# Altium integrated library TI Memory Dynamic RAM.IntLib: 45 symbols
Pins are listed as number, name and electrical type; pins without a type are passive.

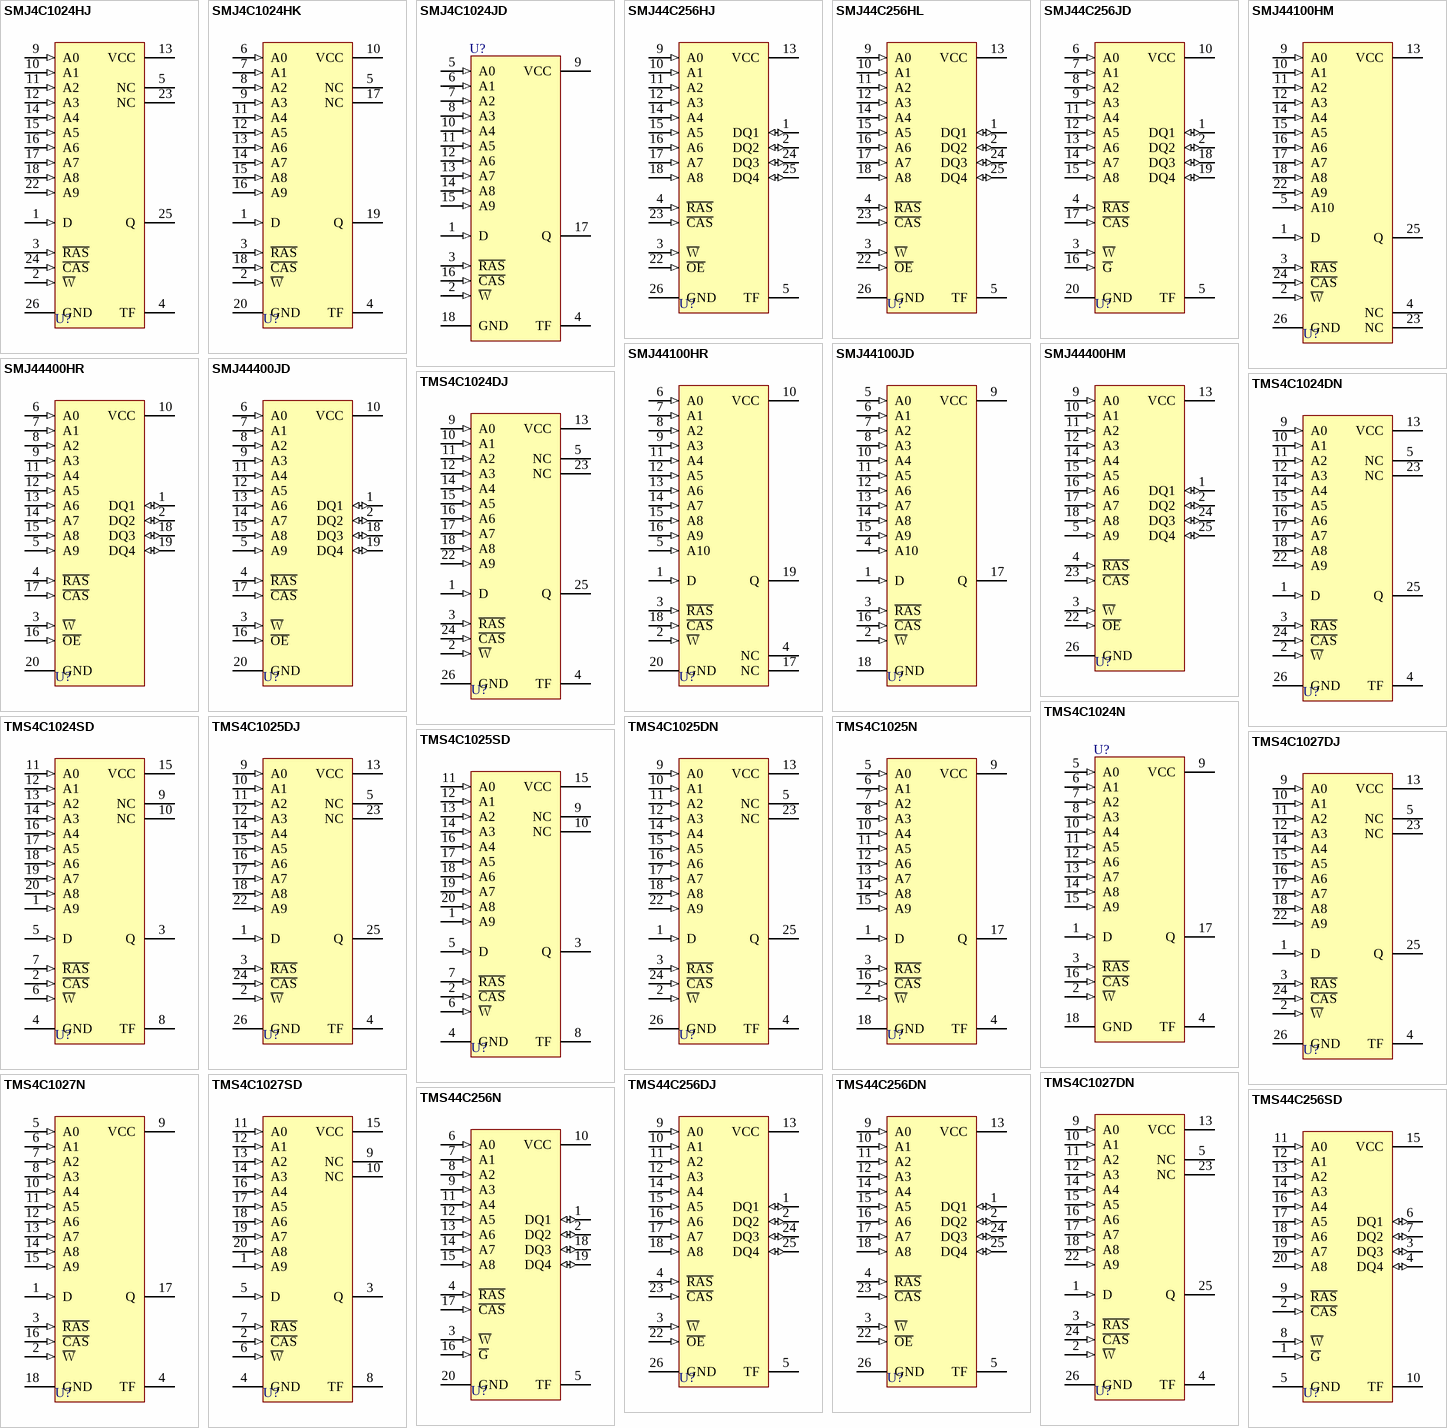
[diagram p0: symbols SMJ4C1024HJ to TMS44C256SD]

## SMJ4C1024HJ
designator U?
1 048 576-Bit Dynamic RAM; Published: 15-Apr-2002; DatasheetVersion: Dec-1989; PackageVersion: 1991; PackageReference: HJ20/26; Publisher: Altium Limited; PackageDescription: SOJ; 20 Leads; Body Width 8.4 mm; Pitch 1.27 mm; ComponentLink1Description: Manufacturer Link; ComponentLink1URL: http://www.ti.com/
footprint HJ20/26 (SOJ; 20 Leads; Body Width 8.4 mm; Pitch 1.27 mm)
pins: 1 D (in), 2 ~{W} (in), 3 ~{RAS} (in), 4 TF, 5 NC, 9 A0 (in), 10 A1 (in), 11 A2 (in), 12 A3 (in), 13 VCC (power), 14 A4 (in), 15 A5 (in), 16 A6 (in), 17 A7 (in), 18 A8 (in), 22 A9 (in), 23 NC, 24 ~{CAS} (in), 25 Q (hiz), 26 GND (power)

## SMJ4C1024HK
designator U?
1 048 576-Bit Dynamic RAM; Published: 15-Apr-2002; LatestRevisionDate: 08-Jul-2005; LatestRevisionNote: Stylized 3D Model Added.; DatasheetVersion: Dec-1989; PackageVersion: 1991; PackageReference: HK20; Publisher: Altium Limited; PackageDescription: DFP; 20 Leads; Body 17.3 x 9.8 mm (LxW max); Pitch 1.27 mm; ComponentLink1Description: Manufacturer Link; ComponentLink1URL: http://www.ti.com/
footprint HK20 (DFP; 20 Leads; Body 17.3 x 9.8 mm (LxW max); Pitch 1.27 mm)
3D model HR20 (DFP; 20 Leads; Body 17.3 x 9.8 mm (LxW max); Pitch 1.27 mm)
pins: 1 D (in), 2 ~{W} (in), 3 ~{RAS} (in), 4 TF, 5 NC, 6 A0 (in), 7 A1 (in), 8 A2 (in), 9 A3 (in), 10 VCC (power), 11 A4 (in), 12 A5 (in), 13 A6 (in), 14 A7 (in), 15 A8 (in), 16 A9 (in), 17 NC, 18 ~{CAS} (in), 19 Q (hiz), 20 GND (power)

## SMJ4C1024JD
designator U?
1 048 576-Bit Dynamic RAM; Published: 15-Apr-2002; LatestRevisionDate: 08-Jul-2005; LatestRevisionNote: Stylized 3D Model Added.; DatasheetVersion: Dec-1989; PackageVersion: Jun-1997; PackageReference: JD018-0.43; Publisher: Altium Limited; PackageDescription: DIP; 18 Leads; Row Spacing 10.16 mm; Pitch 2.54 mm; ComponentLink1Description: Manufacturer Link; ComponentLink1URL: http://www.ti.com/
footprint JD018-0.43 (DIP; 18 Leads; Row Spacing 10.16 mm; Pitch 2.54 mm)
3D model JD018-0_43 (DIP; 18 Leads; Row Spacing 10.16 mm; Pitch 2.54 mm)
pins: 1 D (in), 2 ~{W} (in), 3 ~{RAS} (in), 4 TF, 5 A0 (in), 6 A1 (in), 7 A2 (in), 8 A3 (in), 9 VCC (power), 10 A4 (in), 11 A5 (in), 12 A6 (in), 13 A7 (in), 14 A8 (in), 15 A9 (in), 16 ~{CAS} (in), 17 Q (hiz), 18 GND (power)

## SMJ44C256HJ
designator U?
262 144-Word by 4-Bit Dynamic RAM; Published: 15-Apr-2002; DatasheetVersion: Feb-1990; PackageVersion: 1991; PackageReference: HJ20/26; Publisher: Altium Limited; PackageDescription: SOJ; 20 Leads; Body Width 8.4 mm; Pitch 1.27 mm; ComponentLink1Description: Manufacturer Link; ComponentLink1URL: http://www.ti.com/
footprint HJ20/26 (SOJ; 20 Leads; Body Width 8.4 mm; Pitch 1.27 mm)
pins: 1 DQ1 (io), 2 DQ2 (io), 3 ~{W} (in), 4 ~{RAS} (in), 5 TF, 9 A0 (in), 10 A1 (in), 11 A2 (in), 12 A3 (in), 13 VCC (power), 14 A4 (in), 15 A5 (in), 16 A6 (in), 17 A7 (in), 18 A8 (in), 22 ~{OE} (in), 23 ~{CAS} (in), 24 DQ3 (io), 25 DQ4 (io), 26 GND (power)

## SMJ44C256HL
designator U?
262 144-Word by 4-Bit Dynamic RAM; Published: 15-Apr-2002; DatasheetVersion: Feb-1990; PackageVersion: 1991; PackageReference: HL20/26; Publisher: Altium Limited; PackageDescription: Leadless Chip Carrier; 20 Terminals; Body 8.9 x 17.1 mm; ComponentLink1Description: Manufacturer Link; ComponentLink1URL: http://www.ti.com/
footprint HL20/26 (Leadless Chip Carrier; 20 Terminals; Body 8.9 x 17.1 mm)
pins: 1 DQ1 (io), 2 DQ2 (io), 3 ~{W} (in), 4 ~{RAS} (in), 5 TF, 9 A0 (in), 10 A1 (in), 11 A2 (in), 12 A3 (in), 13 VCC (power), 14 A4 (in), 15 A5 (in), 16 A6 (in), 17 A7 (in), 18 A8 (in), 22 ~{OE} (in), 23 ~{CAS} (in), 24 DQ3 (io), 25 DQ4 (io), 26 GND (power)

## SMJ44C256JD
designator U?
262 144-Word by 4-Bit Dynamic RAM; Published: 15-Apr-2002; LatestRevisionDate: 08-Jul-2005; LatestRevisionNote: Stylized 3D Model Added.; DatasheetVersion: Feb-1990; PackageVersion: Jun-1997; PackageReference: JD020-0.43; Publisher: Altium Limited; PackageDescription: DIP; 20 Leads; Row Spacing 10.16 mm; Pitch 2.54 mm; Code_JEDEC: MS-015-BA; ComponentLink1Description: Manufacturer Link; ComponentLink1URL: http://www.ti.com/
footprint JD020-0.43 (DIP; 20 Leads; Row Spacing 10.16 mm; Pitch 2.54 mm)
3D model JD020-0_43 (DIP; 20 Leads; Row Spacing 10.16 mm; Pitch 2.54 mm)
pins: 1 DQ1 (io), 2 DQ2 (io), 3 ~{W} (in), 4 ~{RAS} (in), 5 TF, 6 A0 (in), 7 A1 (in), 8 A2 (in), 9 A3 (in), 10 VCC (power), 11 A4 (in), 12 A5 (in), 13 A6 (in), 14 A7 (in), 15 A8 (in), 16 ~{G} (in), 17 ~{CAS} (in), 18 DQ3 (io), 19 DQ4 (io), 20 GND (power)

## SMJ44100HM
designator U?
4 194 304-Word by 1-Bit Dynamic RAM; Published: 15-Apr-2002; DatasheetVersion: Jan-1991; PackageVersion: 1991; PackageReference: HM20/26; Publisher: Altium Limited; PackageDescription: Leadless Chip Carrier; 20 Terminals; Body 10.2 x 17.8 mm; ComponentLink1Description: Manufacturer Link; ComponentLink1URL: http://www.ti.com/
footprint HM20/26 (Leadless Chip Carrier; 20 Terminals; Body 10.2 x 17.8 mm)
pins: 1 D (in), 2 ~{W} (in), 3 ~{RAS} (in), 4 NC, 5 A10 (in), 9 A0 (in), 10 A1 (in), 11 A2 (in), 12 A3 (in), 13 VCC (power), 14 A4 (in), 15 A5 (in), 16 A6 (in), 17 A7 (in), 18 A8 (in), 22 A9 (in), 23 NC, 24 ~{CAS} (in), 25 Q (hiz), 26 GND (power)

## SMJ44100HR
designator U?
4 194 304-Word by 1-Bit Dynamic RAM; Published: 15-Apr-2002; LatestRevisionDate: 08-Jul-2005; LatestRevisionNote: Stylized 3D Model Added.; DatasheetVersion: Jan-1991; PackageVersion: 1991; PackageReference: HR20; Publisher: Altium Limited; PackageDescription: DFP; 20 Leads; Body 18 x 12.6 mm (LxW max); Pitch 1.27 mm; ComponentLink1Description: Manufacturer Link; ComponentLink1URL: http://www.ti.com/
footprint HR20 (DFP; 20 Leads; Body 18 x 12.6 mm (LxW max); Pitch 1.27 mm)
3D model HR20 (DFP; 20 Leads; Body 18 x 12.6 mm (LxW max); Pitch 1.27 mm)
pins: 1 D (in), 2 ~{W} (in), 3 ~{RAS} (in), 4 NC, 5 A10 (in), 6 A0 (in), 7 A1 (in), 8 A2 (in), 9 A3 (in), 10 VCC (power), 11 A4 (in), 12 A5 (in), 13 A6 (in), 14 A7 (in), 15 A8 (in), 16 A9 (in), 17 NC, 18 ~{CAS} (in), 19 Q (hiz), 20 GND (power)

## SMJ44100JD
designator U?
4 194 304-Word by 1-Bit Dynamic RAM; Published: 15-Apr-2002; LatestRevisionDate: 08-Jul-2005; LatestRevisionNote: Stylized 3D Model Added.; DatasheetVersion: Jan-1991; PackageVersion: Jun-1997; PackageReference: JD018-0.43; Publisher: Altium Limited; PackageDescription: DIP; 18 Leads; Row Spacing 10.16 mm; Pitch 2.54 mm; ComponentLink1Description: Manufacturer Link; ComponentLink1URL: http://www.ti.com/
footprint JD018-0.43 (DIP; 18 Leads; Row Spacing 10.16 mm; Pitch 2.54 mm)
3D model JD018-0_43 (DIP; 18 Leads; Row Spacing 10.16 mm; Pitch 2.54 mm)
pins: 1 D (in), 2 ~{W} (in), 3 ~{RAS} (in), 4 A10 (in), 5 A0 (in), 6 A1 (in), 7 A2 (in), 8 A3 (in), 9 VCC (power), 10 A4 (in), 11 A5 (in), 12 A6 (in), 13 A7 (in), 14 A8 (in), 15 A9 (in), 16 ~{CAS} (in), 17 Q (hiz), 18 GND (power)

## SMJ44400HM
designator U?
1 048 576-Word by 4-Bit Dynamic RAM; Published: 15-Apr-2002; DatasheetVersion: Jan-1991; PackageVersion: 1991; PackageReference: HM20/26; Publisher: Altium Limited; PackageDescription: Leadless Chip Carrier; 20 Terminals; Body 10.2 x 17.8 mm; ComponentLink1Description: Manufacturer Link; ComponentLink1URL: http://www.ti.com/
footprint HM20/26 (Leadless Chip Carrier; 20 Terminals; Body 10.2 x 17.8 mm)
pins: 1 DQ1 (io), 2 DQ2 (io), 3 ~{W} (in), 4 ~{RAS} (in), 5 A9 (in), 9 A0 (in), 10 A1 (in), 11 A2 (in), 12 A3 (in), 13 VCC (power), 14 A4 (in), 15 A5 (in), 16 A6 (in), 17 A7 (in), 18 A8 (in), 22 ~{OE} (in), 23 ~{CAS} (in), 24 DQ3 (io), 25 DQ4 (io), 26 GND (power)

## SMJ44400HR
designator U?
1 048 576-Word by 4-Bit Dynamic RAM; Published: 15-Apr-2002; LatestRevisionDate: 08-Jul-2005; LatestRevisionNote: Stylized 3D Model Added.; DatasheetVersion: Jan-1991; PackageVersion: 1991; PackageReference: HR20; Publisher: Altium Limited; PackageDescription: DFP; 20 Leads; Body 18 x 12.6 mm (LxW max); Pitch 1.27 mm; ComponentLink1Description: Manufacturer Link; ComponentLink1URL: http://www.ti.com/
footprint HR20 (DFP; 20 Leads; Body 18 x 12.6 mm (LxW max); Pitch 1.27 mm)
3D model HR20 (DFP; 20 Leads; Body 18 x 12.6 mm (LxW max); Pitch 1.27 mm)
pins: 1 DQ1 (io), 2 DQ2 (io), 3 ~{W} (in), 4 ~{RAS} (in), 5 A9 (in), 6 A0 (in), 7 A1 (in), 8 A2 (in), 9 A3 (in), 10 VCC (power), 11 A4 (in), 12 A5 (in), 13 A6 (in), 14 A7 (in), 15 A8 (in), 16 ~{OE} (in), 17 ~{CAS} (in), 18 DQ3 (io), 19 DQ4 (io), 20 GND (power)

## SMJ44400JD
designator U?
1 048 576-Word by 4-Bit Dynamic RAM; Published: 15-Apr-2002; LatestRevisionDate: 08-Jul-2005; LatestRevisionNote: Stylized 3D Model Added.; DatasheetVersion: Jan-1991; PackageVersion: Jun-1997; PackageReference: JD020-0.43; Publisher: Altium Limited; PackageDescription: DIP; 20 Leads; Row Spacing 10.16 mm; Pitch 2.54 mm; Code_JEDEC: MS-015-BA; ComponentLink1Description: Manufacturer Link; ComponentLink1URL: http://www.ti.com/
footprint JD020-0.43 (DIP; 20 Leads; Row Spacing 10.16 mm; Pitch 2.54 mm)
3D model JD020-0_43 (DIP; 20 Leads; Row Spacing 10.16 mm; Pitch 2.54 mm)
pins: 1 DQ1 (io), 2 DQ2 (io), 3 ~{W} (in), 4 ~{RAS} (in), 5 A9 (in), 6 A0 (in), 7 A1 (in), 8 A2 (in), 9 A3 (in), 10 VCC (power), 11 A4 (in), 12 A5 (in), 13 A6 (in), 14 A7 (in), 15 A8 (in), 16 ~{OE} (in), 17 ~{CAS} (in), 18 DQ3 (io), 19 DQ4 (io), 20 GND (power)

## TMS4C1024DJ
designator U?
1 048 576-Bit Dynamic RAM; Published: 15-Apr-2002; DatasheetVersion: Nov-1990; PackageVersion: 1991; PackageReference: DJ20/26; Publisher: Altium Limited; PackageDescription: SOJ; 20 Leads; Body Width 7.6 mm; Pitch 1.27 mm; ComponentLink1Description: Manufacturer Link; ComponentLink1URL: http://www.ti.com/
footprint DJ20/26 (SOJ; 20 Leads; Body Width 7.6 mm; Pitch 1.27 mm)
pins: 1 D (in), 2 ~{W} (in), 3 ~{RAS} (in), 4 TF, 5 NC, 9 A0 (in), 10 A1 (in), 11 A2 (in), 12 A3 (in), 13 VCC (power), 14 A4 (in), 15 A5 (in), 16 A6 (in), 17 A7 (in), 18 A8 (in), 22 A9 (in), 23 NC, 24 ~{CAS} (in), 25 Q (hiz), 26 GND (power)

## TMS4C1024DN
designator U?
1 048 576-Bit Dynamic RAM; Published: 15-Apr-2002; DatasheetVersion: Nov-1990; PackageVersion: 1991; PackageReference: DN20/26; Publisher: Altium Limited; PackageDescription: SOJ; 20 Leads; Body Width 7.5 mm; Pitch 1.27 mm; ComponentLink1Description: Manufacturer Link; ComponentLink1URL: http://www.ti.com/
footprint DN20/26 (SOJ; 20 Leads; Body Width 7.5 mm; Pitch 1.27 mm)
pins: 1 D (in), 2 ~{W} (in), 3 ~{RAS} (in), 4 TF, 5 NC, 9 A0 (in), 10 A1 (in), 11 A2 (in), 12 A3 (in), 13 VCC (power), 14 A4 (in), 15 A5 (in), 16 A6 (in), 17 A7 (in), 18 A8 (in), 22 A9 (in), 23 NC, 24 ~{CAS} (in), 25 Q (hiz), 26 GND (power)

## TMS4C1024N
designator U?
1 048 576-Bit Dynamic RAM; Published: 15-Apr-2002; LatestRevisionDate: 08-Jul-2005; LatestRevisionNote: Stylized 3D Model Added.; DatasheetVersion: Nov-1990; PackageVersion: Oct-1995; PackageReference: N018; Publisher: Altium Limited; PackageDescription: DIP; 18 Leads; Row Spacing 7.62 mm; Pitch 2.54 mm; ComponentLink1Description: Manufacturer Link; ComponentLink1URL: http://www.ti.com/
footprint N018 (DIP; 18 Leads; Row Spacing 7.62 mm; Pitch 2.54 mm)
3D model N018 (DIP; 18 Leads; Row Spacing 7.62 mm; Pitch 2.54 mm)
pins: 1 D (in), 2 ~{W} (in), 3 ~{RAS} (in), 4 TF, 5 A0 (in), 6 A1 (in), 7 A2 (in), 8 A3 (in), 9 VCC (power), 10 A4 (in), 11 A5 (in), 12 A6 (in), 13 A7 (in), 14 A8 (in), 15 A9 (in), 16 ~{CAS} (in), 17 Q (hiz), 18 GND (power)

## TMS4C1024SD
designator U?
1 048 576-Bit Dynamic RAM; Published: 15-Apr-2002; DatasheetVersion: Nov-1990; PackageVersion: 1991; PackageReference: SD020; Publisher: Altium Limited; PackageDescription: ZIP; 20 Leads; Row Space 2.54 mm; Pitch 1.27 mm; ComponentLink1Description: Manufacturer Link; ComponentLink1URL: http://www.ti.com/
footprint SD020 (ZIP; 20 Leads; Row Space 2.54 mm; Pitch 1.27 mm)
pins: 1 A9 (in), 2 ~{CAS} (in), 3 Q (hiz), 4 GND (power), 5 D (in), 6 ~{W} (in), 7 ~{RAS} (in), 8 TF, 9 NC, 10 NC, 11 A0 (in), 12 A1 (in), 13 A2 (in), 14 A3 (in), 15 VCC (power), 16 A4 (in), 17 A5 (in), 18 A6 (in), 19 A7 (in), 20 A8 (in)

## TMS4C1025DJ
designator U?
1 048 576-Bit Dynamic RAM; Published: 15-Apr-2002; DatasheetVersion: Nov-1990; PackageVersion: 1991; PackageReference: DJ20/26; Publisher: Altium Limited; PackageDescription: SOJ; 20 Leads; Body Width 7.6 mm; Pitch 1.27 mm; ComponentLink1Description: Manufacturer Link; ComponentLink1URL: http://www.ti.com/
footprint DJ20/26 (SOJ; 20 Leads; Body Width 7.6 mm; Pitch 1.27 mm)
pins: 1 D (in), 2 ~{W} (in), 3 ~{RAS} (in), 4 TF, 5 NC, 9 A0 (in), 10 A1 (in), 11 A2 (in), 12 A3 (in), 13 VCC (power), 14 A4 (in), 15 A5 (in), 16 A6 (in), 17 A7 (in), 18 A8 (in), 22 A9 (in), 23 NC, 24 ~{CAS} (in), 25 Q (hiz), 26 GND (power)

## TMS4C1025DN
designator U?
1 048 576-Bit Dynamic RAM; Published: 15-Apr-2002; DatasheetVersion: Nov-1990; PackageVersion: 1991; PackageReference: DN20/26; Publisher: Altium Limited; PackageDescription: SOJ; 20 Leads; Body Width 7.5 mm; Pitch 1.27 mm; ComponentLink1Description: Manufacturer Link; ComponentLink1URL: http://www.ti.com/
footprint DN20/26 (SOJ; 20 Leads; Body Width 7.5 mm; Pitch 1.27 mm)
pins: 1 D (in), 2 ~{W} (in), 3 ~{RAS} (in), 4 TF, 5 NC, 9 A0 (in), 10 A1 (in), 11 A2 (in), 12 A3 (in), 13 VCC (power), 14 A4 (in), 15 A5 (in), 16 A6 (in), 17 A7 (in), 18 A8 (in), 22 A9 (in), 23 NC, 24 ~{CAS} (in), 25 Q (hiz), 26 GND (power)

## TMS4C1025N
designator U?
1 048 576-Bit Dynamic RAM; Published: 15-Apr-2002; LatestRevisionDate: 08-Jul-2005; LatestRevisionNote: Stylized 3D Model Added.; DatasheetVersion: Nov-1990; PackageVersion: Oct-1995; PackageReference: N018; Publisher: Altium Limited; PackageDescription: DIP; 18 Leads; Row Spacing 7.62 mm; Pitch 2.54 mm; ComponentLink1Description: Manufacturer Link; ComponentLink1URL: http://www.ti.com/
footprint N018 (DIP; 18 Leads; Row Spacing 7.62 mm; Pitch 2.54 mm)
3D model N018 (DIP; 18 Leads; Row Spacing 7.62 mm; Pitch 2.54 mm)
pins: 1 D (in), 2 ~{W} (in), 3 ~{RAS} (in), 4 TF, 5 A0 (in), 6 A1 (in), 7 A2 (in), 8 A3 (in), 9 VCC (power), 10 A4 (in), 11 A5 (in), 12 A6 (in), 13 A7 (in), 14 A8 (in), 15 A9 (in), 16 ~{CAS} (in), 17 Q (hiz), 18 GND (power)

## TMS4C1025SD
designator U?
1 048 576-Bit Dynamic RAM; Published: 15-Apr-2002; DatasheetVersion: Nov-1990; PackageVersion: 1991; PackageReference: SD020; Publisher: Altium Limited; PackageDescription: ZIP; 20 Leads; Row Space 2.54 mm; Pitch 1.27 mm; ComponentLink1Description: Manufacturer Link; ComponentLink1URL: http://www.ti.com/
footprint SD020 (ZIP; 20 Leads; Row Space 2.54 mm; Pitch 1.27 mm)
pins: 1 A9 (in), 2 ~{CAS} (in), 3 Q (hiz), 4 GND (power), 5 D (in), 6 ~{W} (in), 7 ~{RAS} (in), 8 TF, 9 NC, 10 NC, 11 A0 (in), 12 A1 (in), 13 A2 (in), 14 A3 (in), 15 VCC (power), 16 A4 (in), 17 A5 (in), 18 A6 (in), 19 A7 (in), 20 A8 (in)

## TMS4C1027DJ
designator U?
1 048 576-Bit Dynamic RAM; Published: 15-Apr-2002; DatasheetVersion: Nov-1990; PackageVersion: 1991; PackageReference: DJ20/26; Publisher: Altium Limited; PackageDescription: SOJ; 20 Leads; Body Width 7.6 mm; Pitch 1.27 mm; ComponentLink1Description: Manufacturer Link; ComponentLink1URL: http://www.ti.com/
footprint DJ20/26 (SOJ; 20 Leads; Body Width 7.6 mm; Pitch 1.27 mm)
pins: 1 D (in), 2 ~{W} (in), 3 ~{RAS} (in), 4 TF, 5 NC, 9 A0 (in), 10 A1 (in), 11 A2 (in), 12 A3 (in), 13 VCC (power), 14 A4 (in), 15 A5 (in), 16 A6 (in), 17 A7 (in), 18 A8 (in), 22 A9 (in), 23 NC, 24 ~{CAS} (in), 25 Q (hiz), 26 GND (power)

## TMS4C1027DN
designator U?
1 048 576-Bit Dynamic RAM; Published: 15-Apr-2002; DatasheetVersion: Nov-1990; PackageVersion: 1991; PackageReference: DN20/26; Publisher: Altium Limited; PackageDescription: SOJ; 20 Leads; Body Width 7.5 mm; Pitch 1.27 mm; ComponentLink1Description: Manufacturer Link; ComponentLink1URL: http://www.ti.com/
footprint DN20/26 (SOJ; 20 Leads; Body Width 7.5 mm; Pitch 1.27 mm)
pins: 1 D (in), 2 ~{W} (in), 3 ~{RAS} (in), 4 TF, 5 NC, 9 A0 (in), 10 A1 (in), 11 A2 (in), 12 A3 (in), 13 VCC (power), 14 A4 (in), 15 A5 (in), 16 A6 (in), 17 A7 (in), 18 A8 (in), 22 A9 (in), 23 NC, 24 ~{CAS} (in), 25 Q (hiz), 26 GND (power)

## TMS4C1027N
designator U?
1 048 576-Bit Dynamic RAM; Published: 15-Apr-2002; LatestRevisionDate: 08-Jul-2005; LatestRevisionNote: Stylized 3D Model Added.; DatasheetVersion: Nov-1990; PackageVersion: Oct-1995; PackageReference: N018; Publisher: Altium Limited; PackageDescription: DIP; 18 Leads; Row Spacing 7.62 mm; Pitch 2.54 mm; ComponentLink1Description: Manufacturer Link; ComponentLink1URL: http://www.ti.com/
footprint N018 (DIP; 18 Leads; Row Spacing 7.62 mm; Pitch 2.54 mm)
3D model N018 (DIP; 18 Leads; Row Spacing 7.62 mm; Pitch 2.54 mm)
pins: 1 D (in), 2 ~{W} (in), 3 ~{RAS} (in), 4 TF, 5 A0 (in), 6 A1 (in), 7 A2 (in), 8 A3 (in), 9 VCC (power), 10 A4 (in), 11 A5 (in), 12 A6 (in), 13 A7 (in), 14 A8 (in), 15 A9 (in), 16 ~{CAS} (in), 17 Q (hiz), 18 GND (power)

## TMS4C1027SD
designator U?
1 048 576-Bit Dynamic RAM; Published: 15-Apr-2002; DatasheetVersion: Nov-1990; PackageVersion: 1991; PackageReference: SD020; Publisher: Altium Limited; PackageDescription: ZIP; 20 Leads; Row Space 2.54 mm; Pitch 1.27 mm; ComponentLink1Description: Manufacturer Link; ComponentLink1URL: http://www.ti.com/
footprint SD020 (ZIP; 20 Leads; Row Space 2.54 mm; Pitch 1.27 mm)
pins: 1 A9 (in), 2 ~{CAS} (in), 3 Q (hiz), 4 GND (power), 5 D (in), 6 ~{W} (in), 7 ~{RAS} (in), 8 TF, 9 NC, 10 NC, 11 A0 (in), 12 A1 (in), 13 A2 (in), 14 A3 (in), 15 VCC (power), 16 A4 (in), 17 A5 (in), 18 A6 (in), 19 A7 (in), 20 A8 (in)

## TMS44C256DJ
designator U?
262 144-Word by 4-Bit Dynamic RAM; Published: 15-Apr-2002; DatasheetVersion: Nov-1990; PackageVersion: 1991; PackageReference: DJ20/26; Publisher: Altium Limited; PackageDescription: SOJ; 20 Leads; Body Width 7.6 mm; Pitch 1.27 mm; ComponentLink1Description: Manufacturer Link; ComponentLink1URL: http://www.ti.com/
footprint DJ20/26 (SOJ; 20 Leads; Body Width 7.6 mm; Pitch 1.27 mm)
pins: 1 DQ1 (io), 2 DQ2 (io), 3 ~{W} (in), 4 ~{RAS} (in), 5 TF, 9 A0 (in), 10 A1 (in), 11 A2 (in), 12 A3 (in), 13 VCC (power), 14 A4 (in), 15 A5 (in), 16 A6 (in), 17 A7 (in), 18 A8 (in), 22 ~{OE} (in), 23 ~{CAS} (in), 24 DQ3 (io), 25 DQ4 (io), 26 GND (power)

## TMS44C256DN
designator U?
262 144-Word by 4-Bit Dynamic RAM; Published: 15-Apr-2002; DatasheetVersion: Nov-1990; PackageVersion: 1991; PackageReference: DN20/26; Publisher: Altium Limited; PackageDescription: SOJ; 20 Leads; Body Width 7.5 mm; Pitch 1.27 mm; ComponentLink1Description: Manufacturer Link; ComponentLink1URL: http://www.ti.com/
footprint DN20/26 (SOJ; 20 Leads; Body Width 7.5 mm; Pitch 1.27 mm)
pins: 1 DQ1 (io), 2 DQ2 (io), 3 ~{W} (in), 4 ~{RAS} (in), 5 TF, 9 A0 (in), 10 A1 (in), 11 A2 (in), 12 A3 (in), 13 VCC (power), 14 A4 (in), 15 A5 (in), 16 A6 (in), 17 A7 (in), 18 A8 (in), 22 ~{OE} (in), 23 ~{CAS} (in), 24 DQ3 (io), 25 DQ4 (io), 26 GND (power)

## TMS44C256N
designator U?
262 144-Word by 4-Bit Dynamic RAM; Published: 15-Apr-2002; LatestRevisionDate: 08-Jul-2005; LatestRevisionNote: Stylized 3D Model Added.; DatasheetVersion: Nov-1990; PackageVersion: Oct-1995; PackageReference: N020; Publisher: Altium Limited; PackageDescription: DIP; 20 Leads; Row Spacing 7.62 mm; Pitch 2.54 mm; ComponentLink1Description: Manufacturer Link; ComponentLink1URL: http://www.ti.com/
footprint N020 (DIP; 20 Leads; Row Spacing 7.62 mm; Pitch 2.54 mm)
3D model N020 (DIP; 20 Leads; Row Spacing 7.62 mm; Pitch 2.54 mm)
pins: 1 DQ1 (io), 2 DQ2 (io), 3 ~{W} (in), 4 ~{RAS} (in), 5 TF, 6 A0 (in), 7 A1 (in), 8 A2 (in), 9 A3 (in), 10 VCC (power), 11 A4 (in), 12 A5 (in), 13 A6 (in), 14 A7 (in), 15 A8 (in), 16 ~{G} (in), 17 ~{CAS} (in), 18 DQ3 (io), 19 DQ4 (io), 20 GND (power)

## TMS44C256SD
designator U?
262 144-Word by 4-Bit Dynamic RAM; Published: 15-Apr-2002; DatasheetVersion: Nov-1990; PackageVersion: 1991; PackageReference: SD020; Publisher: Altium Limited; PackageDescription: ZIP; 20 Leads; Row Space 2.54 mm; Pitch 1.27 mm; ComponentLink1Description: Manufacturer Link; ComponentLink1URL: http://www.ti.com/
footprint SD020 (ZIP; 20 Leads; Row Space 2.54 mm; Pitch 1.27 mm)
pins: 1 ~{G} (in), 2 ~{CAS} (in), 3 DQ3 (io), 4 DQ4 (io), 5 GND (power), 6 DQ1 (io), 7 DQ2 (io), 8 ~{W} (in), 9 ~{RAS} (in), 10 TF, 11 A0 (in), 12 A1 (in), 13 A2 (in), 14 A3 (in), 15 VCC (power), 16 A4 (in), 17 A5 (in), 18 A6 (in), 19 A7 (in), 20 A8 (in)

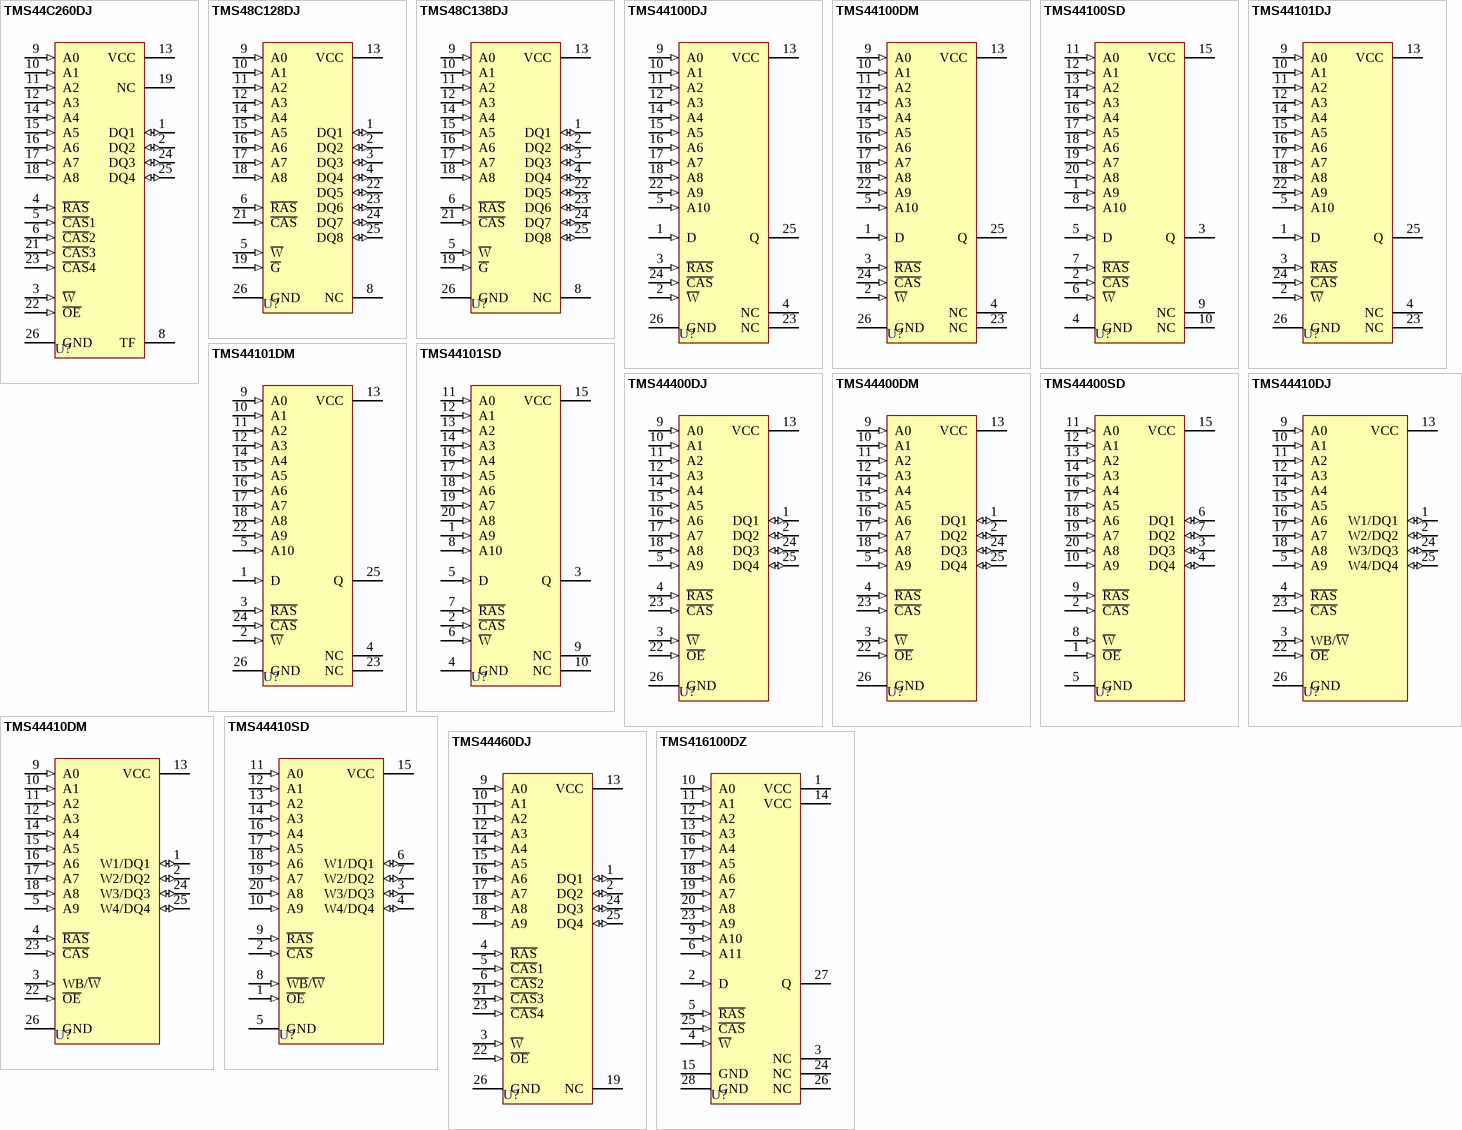
[diagram p1: symbols TMS44C260DJ to TMS416100DZ]

## TMS44C260DJ
designator U?
262 144 Word by 4-Bit Quad Cas Dynamic RAM; Published: 15-Apr-2002; DatasheetVersion: Nov-1990; PackageVersion: 1991; PackageReference: DJ24/26; Publisher: Altium Limited; PackageDescription: SOJ; 24 Leads; Body Width 7.6 mm; Pitch 1.27 mm; ComponentLink1Description: Manufacturer Link; ComponentLink1URL: http://www.ti.com/
footprint DJ24/26 (SOJ; 24 Leads; Body Width 7.6 mm; Pitch 1.27 mm)
pins: 1 DQ1 (io), 2 DQ2 (io), 3 ~{W} (in), 4 ~{RAS} (in), 5 ~{CAS}1 (in), 6 ~{CAS}2 (in), 8 TF, 9 A0 (in), 10 A1 (in), 11 A2 (in), 12 A3 (in), 13 VCC (power), 14 A4 (in), 15 A5 (in), 16 A6 (in), 17 A7 (in), 18 A8 (in), 19 NC, 21 ~{CAS}3 (in), 22 ~{OE} (in), 23 ~{CAS}4 (in), 24 DQ3 (io), 25 DQ4 (io), 26 GND (power)

## TMS48C128DJ
designator U?
131 072-Word by 8-Bit High-Speed Dynamic RAM; Published: 15-Apr-2002; DatasheetVersion: Dec-1990; PackageVersion: 1991; PackageReference: DJ24/26; Publisher: Altium Limited; PackageDescription: SOJ; 24 Leads; Body Width 7.6 mm; Pitch 1.27 mm; ComponentLink1Description: Manufacturer Link; ComponentLink1URL: http://www.ti.com/
footprint DJ24/26 (SOJ; 24 Leads; Body Width 7.6 mm; Pitch 1.27 mm)
pins: 1 DQ1 (io), 2 DQ2 (io), 3 DQ3 (io), 4 DQ4 (io), 5 ~{W} (in), 6 ~{RAS} (in), 8 NC, 9 A0 (in), 10 A1 (in), 11 A2 (in), 12 A3 (in), 13 VCC (power), 14 A4 (in), 15 A5 (in), 16 A6 (in), 17 A7 (in), 18 A8 (in), 19 ~{G} (in), 21 ~{CAS} (in), 22 DQ5 (io), 23 DQ6 (io), 24 DQ7 (io), 25 DQ8 (io), 26 GND (power)

## TMS48C138DJ
designator U?
131 072-Word by 8-Bit High-Speed Dynamic RAM; Published: 15-Apr-2002; DatasheetVersion: Dec-1990; PackageVersion: 1991; PackageReference: DJ24/26; Publisher: Altium Limited; PackageDescription: SOJ; 24 Leads; Body Width 7.6 mm; Pitch 1.27 mm; ComponentLink1Description: Manufacturer Link; ComponentLink1URL: http://www.ti.com/
footprint DJ24/26 (SOJ; 24 Leads; Body Width 7.6 mm; Pitch 1.27 mm)
pins: 1 DQ1 (io), 2 DQ2 (io), 3 DQ3 (io), 4 DQ4 (io), 5 ~{W} (in), 6 ~{RAS} (in), 8 NC, 9 A0 (in), 10 A1 (in), 11 A2 (in), 12 A3 (in), 13 VCC (power), 14 A4 (in), 15 A5 (in), 16 A6 (in), 17 A7 (in), 18 A8 (in), 19 ~{G} (in), 21 ~{CAS} (in), 22 DQ5 (io), 23 DQ6 (io), 24 DQ7 (io), 25 DQ8 (io), 26 GND (power)

## TMS44100DJ
designator U?
4 194 304-Bit Dynamic RAM; Published: 15-Apr-2002; DatasheetVersion: Jan-1991; PackageVersion: 1991; PackageReference: DJ20/26; Publisher: Altium Limited; PackageDescription: SOJ; 20 Leads; Body Width 7.6 mm; Pitch 1.27 mm; ComponentLink1Description: Manufacturer Link; ComponentLink1URL: http://www.ti.com/
footprint DJ20/26 (SOJ; 20 Leads; Body Width 7.6 mm; Pitch 1.27 mm)
pins: 1 D (in), 2 ~{W} (in), 3 ~{RAS} (in), 4 NC, 5 A10 (in), 9 A0 (in), 10 A1 (in), 11 A2 (in), 12 A3 (in), 13 VCC (power), 14 A4 (in), 15 A5 (in), 16 A6 (in), 17 A7 (in), 18 A8 (in), 22 A9 (in), 23 NC, 24 ~{CAS} (in), 25 Q (hiz), 26 GND (power)

## TMS44100DM
designator U?
4 194 304-Bit Dynamic RAM; Published: 15-Apr-2002; DatasheetVersion: Jan-1991; PackageVersion: 1991; PackageReference: DM20/26; Publisher: Altium Limited; PackageDescription: SOJ; 20 Leads; Body Width 8.9 mm; Pitch 1.27 mm; ComponentLink1Description: Manufacturer Link; ComponentLink1URL: http://www.ti.com/
footprint DM20/26 (SOJ; 20 Leads; Body Width 8.9 mm; Pitch 1.27 mm)
pins: 1 D (in), 2 ~{W} (in), 3 ~{RAS} (in), 4 NC, 5 A10 (in), 9 A0 (in), 10 A1 (in), 11 A2 (in), 12 A3 (in), 13 VCC (power), 14 A4 (in), 15 A5 (in), 16 A6 (in), 17 A7 (in), 18 A8 (in), 22 A9 (in), 23 NC, 24 ~{CAS} (in), 25 Q (hiz), 26 GND (power)

## TMS44100SD
designator U?
4 194 304-Bit Dynamic RAM; Published: 15-Apr-2002; DatasheetVersion: Jan-1991; PackageVersion: 1991; PackageReference: SD020; Publisher: Altium Limited; PackageDescription: ZIP; 20 Leads; Row Space 2.54 mm; Pitch 1.27 mm; ComponentLink1Description: Manufacturer Link; ComponentLink1URL: http://www.ti.com/
footprint SD020 (ZIP; 20 Leads; Row Space 2.54 mm; Pitch 1.27 mm)
pins: 1 A9 (in), 2 ~{CAS} (in), 3 Q (hiz), 4 GND (power), 5 D (in), 6 ~{W} (in), 7 ~{RAS} (in), 8 A10 (in), 9 NC, 10 NC, 11 A0 (in), 12 A1 (in), 13 A2 (in), 14 A3 (in), 15 VCC (power), 16 A4 (in), 17 A5 (in), 18 A6 (in), 19 A7 (in), 20 A8 (in)

## TMS44101DJ
designator U?
4 194 304-Bit Dynamic RAM; Published: 15-Apr-2002; DatasheetVersion: Jan-1991; PackageVersion: 1991; PackageReference: DJ20/26; Publisher: Altium Limited; PackageDescription: SOJ; 20 Leads; Body Width 7.6 mm; Pitch 1.27 mm; ComponentLink1Description: Manufacturer Link; ComponentLink1URL: http://www.ti.com/
footprint DJ20/26 (SOJ; 20 Leads; Body Width 7.6 mm; Pitch 1.27 mm)
pins: 1 D (in), 2 ~{W} (in), 3 ~{RAS} (in), 4 NC, 5 A10 (in), 9 A0 (in), 10 A1 (in), 11 A2 (in), 12 A3 (in), 13 VCC (power), 14 A4 (in), 15 A5 (in), 16 A6 (in), 17 A7 (in), 18 A8 (in), 22 A9 (in), 23 NC, 24 ~{CAS} (in), 25 Q (hiz), 26 GND (power)

## TMS44101DM
designator U?
4 194 304-Bit Dynamic RAM; Published: 15-Apr-2002; DatasheetVersion: Jan-1991; PackageVersion: 1991; PackageReference: DM20/26; Publisher: Altium Limited; PackageDescription: SOJ; 20 Leads; Body Width 8.9 mm; Pitch 1.27 mm; ComponentLink1Description: Manufacturer Link; ComponentLink1URL: http://www.ti.com/
footprint DM20/26 (SOJ; 20 Leads; Body Width 8.9 mm; Pitch 1.27 mm)
pins: 1 D (in), 2 ~{W} (in), 3 ~{RAS} (in), 4 NC, 5 A10 (in), 9 A0 (in), 10 A1 (in), 11 A2 (in), 12 A3 (in), 13 VCC (power), 14 A4 (in), 15 A5 (in), 16 A6 (in), 17 A7 (in), 18 A8 (in), 22 A9 (in), 23 NC, 24 ~{CAS} (in), 25 Q (hiz), 26 GND (power)

## TMS44101SD
designator U?
4 194 304-Bit Dynamic RAM; Published: 15-Apr-2002; DatasheetVersion: Jan-1991; PackageVersion: 1991; PackageReference: SD020; Publisher: Altium Limited; PackageDescription: ZIP; 20 Leads; Row Space 2.54 mm; Pitch 1.27 mm; ComponentLink1Description: Manufacturer Link; ComponentLink1URL: http://www.ti.com/
footprint SD020 (ZIP; 20 Leads; Row Space 2.54 mm; Pitch 1.27 mm)
pins: 1 A9 (in), 2 ~{CAS} (in), 3 Q (hiz), 4 GND (power), 5 D (in), 6 ~{W} (in), 7 ~{RAS} (in), 8 A10 (in), 9 NC, 10 NC, 11 A0 (in), 12 A1 (in), 13 A2 (in), 14 A3 (in), 15 VCC (power), 16 A4 (in), 17 A5 (in), 18 A6 (in), 19 A7 (in), 20 A8 (in)

## TMS44400DJ
designator U?
1 048 576 Word by 4-Bit Dynamic RAM; Published: 15-Apr-2002; DatasheetVersion: Jan-1991; PackageVersion: 1991; PackageReference: DJ20/26; Publisher: Altium Limited; PackageDescription: SOJ; 20 Leads; Body Width 7.6 mm; Pitch 1.27 mm; ComponentLink1Description: Manufacturer Link; ComponentLink1URL: http://www.ti.com/
footprint DJ20/26 (SOJ; 20 Leads; Body Width 7.6 mm; Pitch 1.27 mm)
pins: 1 DQ1 (io), 2 DQ2 (io), 3 ~{W} (in), 4 ~{RAS} (in), 5 A9 (in), 9 A0 (in), 10 A1 (in), 11 A2 (in), 12 A3 (in), 13 VCC (power), 14 A4 (in), 15 A5 (in), 16 A6 (in), 17 A7 (in), 18 A8 (in), 22 ~{OE} (in), 23 ~{CAS} (in), 24 DQ3 (io), 25 DQ4 (io), 26 GND (power)

## TMS44400DM
designator U?
1 048 576 Word by 4-Bit Dynamic RAM; Published: 15-Apr-2002; DatasheetVersion: Jan-1991; PackageVersion: 1991; PackageReference: DM20/26; Publisher: Altium Limited; PackageDescription: SOJ; 20 Leads; Body Width 8.9 mm; Pitch 1.27 mm; ComponentLink1Description: Manufacturer Link; ComponentLink1URL: http://www.ti.com/
footprint DM20/26 (SOJ; 20 Leads; Body Width 8.9 mm; Pitch 1.27 mm)
pins: 1 DQ1 (io), 2 DQ2 (io), 3 ~{W} (in), 4 ~{RAS} (in), 5 A9 (in), 9 A0 (in), 10 A1 (in), 11 A2 (in), 12 A3 (in), 13 VCC (power), 14 A4 (in), 15 A5 (in), 16 A6 (in), 17 A7 (in), 18 A8 (in), 22 ~{OE} (in), 23 ~{CAS} (in), 24 DQ3 (io), 25 DQ4 (io), 26 GND (power)

## TMS44400SD
designator U?
1 048 576 Word by 4-Bit Dynamic RAM; Published: 15-Apr-2002; DatasheetVersion: Jan-1991; PackageVersion: 1991; PackageReference: SD020; Publisher: Altium Limited; PackageDescription: ZIP; 20 Leads; Row Space 2.54 mm; Pitch 1.27 mm; ComponentLink1Description: Manufacturer Link; ComponentLink1URL: http://www.ti.com/
footprint SD020 (ZIP; 20 Leads; Row Space 2.54 mm; Pitch 1.27 mm)
pins: 1 ~{OE} (in), 2 ~{CAS} (in), 3 DQ3 (io), 4 DQ4 (io), 5 GND (power), 6 DQ1 (io), 7 DQ2 (io), 8 ~{W} (in), 9 ~{RAS} (in), 10 A9 (in), 11 A0 (in), 12 A1 (in), 13 A2 (in), 14 A3 (in), 15 VCC (power), 16 A4 (in), 17 A5 (in), 18 A6 (in), 19 A7 (in), 20 A8 (in)

## TMS44410DJ
designator U?
1 048 576-Word by 4-Bit Write-per-Bit Dynamic RAM; Published: 15-Apr-2002; DatasheetVersion: Jan-1991; PackageVersion: 1991; PackageReference: DJ20/26; Publisher: Altium Limited; PackageDescription: SOJ; 20 Leads; Body Width 7.6 mm; Pitch 1.27 mm; ComponentLink1Description: Manufacturer Link; ComponentLink1URL: http://www.ti.com/
footprint DJ20/26 (SOJ; 20 Leads; Body Width 7.6 mm; Pitch 1.27 mm)
pins: 1 W1/DQ1 (io), 2 W2/DQ2 (io), 3 WB/~{W} (in), 4 ~{RAS} (in), 5 A9 (in), 9 A0 (in), 10 A1 (in), 11 A2 (in), 12 A3 (in), 13 VCC (power), 14 A4 (in), 15 A5 (in), 16 A6 (in), 17 A7 (in), 18 A8 (in), 22 ~{OE} (in), 23 ~{CAS} (in), 24 W3/DQ3 (io), 25 W4/DQ4 (io), 26 GND (power)

## TMS44410DM
designator U?
1 048 576-Word by 4-Bit Write-per-Bit Dynamic RAM; Published: 15-Apr-2002; DatasheetVersion: Jan-1991; PackageVersion: 1991; PackageReference: DM20/26; Publisher: Altium Limited; PackageDescription: SOJ; 20 Leads; Body Width 8.9 mm; Pitch 1.27 mm; ComponentLink1Description: Manufacturer Link; ComponentLink1URL: http://www.ti.com/
footprint DM20/26 (SOJ; 20 Leads; Body Width 8.9 mm; Pitch 1.27 mm)
pins: 1 W1/DQ1 (io), 2 W2/DQ2 (io), 3 WB/~{W} (in), 4 ~{RAS} (in), 5 A9 (in), 9 A0 (in), 10 A1 (in), 11 A2 (in), 12 A3 (in), 13 VCC (power), 14 A4 (in), 15 A5 (in), 16 A6 (in), 17 A7 (in), 18 A8 (in), 22 ~{OE} (in), 23 ~{CAS} (in), 24 W3/DQ3 (io), 25 W4/DQ4 (io), 26 GND (power)

## TMS44410SD
designator U?
1 048 576-Word by 4-Bit Write-per-Bit Dynamic RAM; Published: 15-Apr-2002; DatasheetVersion: Jan-1991; PackageVersion: 1991; PackageReference: SD020; Publisher: Altium Limited; PackageDescription: ZIP; 20 Leads; Row Space 2.54 mm; Pitch 1.27 mm; ComponentLink1Description: Manufacturer Link; ComponentLink1URL: http://www.ti.com/
footprint SD020 (ZIP; 20 Leads; Row Space 2.54 mm; Pitch 1.27 mm)
pins: 1 ~{OE} (in), 2 ~{CAS} (in), 3 W3/DQ3 (io), 4 W4/DQ4 (io), 5 GND (power), 6 W1/DQ1 (io), 7 W2/DQ2 (io), 8 ~{WB}/~{W} (in), 9 ~{RAS} (in), 10 A9 (in), 11 A0 (in), 12 A1 (in), 13 A2 (in), 14 A3 (in), 15 VCC (power), 16 A4 (in), 17 A5 (in), 18 A6 (in), 19 A7 (in), 20 A8 (in)

## TMS44460DJ
designator U?
1 048 576 Word by 4-Bit Quad CAS Dynamic RAM; Published: 15-Apr-2002; DatasheetVersion: Nov-1990; PackageVersion: 1991; PackageReference: DJ24/26; Publisher: Altium Limited; PackageDescription: SOJ; 24 Leads; Body Width 7.6 mm; Pitch 1.27 mm; ComponentLink1Description: Manufacturer Link; ComponentLink1URL: http://www.ti.com/
footprint DJ24/26 (SOJ; 24 Leads; Body Width 7.6 mm; Pitch 1.27 mm)
pins: 1 DQ1 (io), 2 DQ2 (io), 3 ~{W} (in), 4 ~{RAS} (in), 5 ~{CAS}1 (in), 6 ~{CAS}2 (in), 8 A9 (in), 9 A0 (in), 10 A1 (in), 11 A2 (in), 12 A3 (in), 13 VCC (power), 14 A4 (in), 15 A5 (in), 16 A6 (in), 17 A7 (in), 18 A8 (in), 19 NC, 21 ~{CAS}3 (in), 22 ~{OE} (in), 23 ~{CAS}4 (in), 24 DQ3 (io), 25 DQ4 (io), 26 GND (power)

## TMS416100DZ
designator U?
16 777 216-Bit Dynamic RAM; Published: 15-Apr-2002; DatasheetVersion: Jan-1991; PackageVersion: 1991; PackageReference: DZ028; Publisher: Altium Limited; PackageDescription: SOJ; 28 Leads; Body Width 10.16 mm; Pitch 1.27 mm; Code_IPC: SOJ 28/400; ComponentLink1Description: Manufacturer Link; ComponentLink1URL: http://www.ti.com/
footprint DZ028 (SOJ; 28 Leads; Body Width 10.16 mm; Pitch 1.27 mm)
pins: 1 VCC (power), 2 D (in), 3 NC, 4 ~{W} (in), 5 ~{RAS} (in), 6 A11 (in), 9 A10 (in), 10 A0 (in), 11 A1 (in), 12 A2 (in), 13 A3 (in), 14 VCC (power), 15 GND (power), 16 A4 (in), 17 A5 (in), 18 A6 (in), 19 A7 (in), 20 A8 (in), 23 A9 (in), 24 NC, 25 ~{CAS} (in), 26 NC, 27 Q (hiz), 28 GND (power)